# EAGLE library part TEXAS_INSTRUMENTS-MICROCONTROLLER-TMS320F28030PAGT (library Module_ICs)
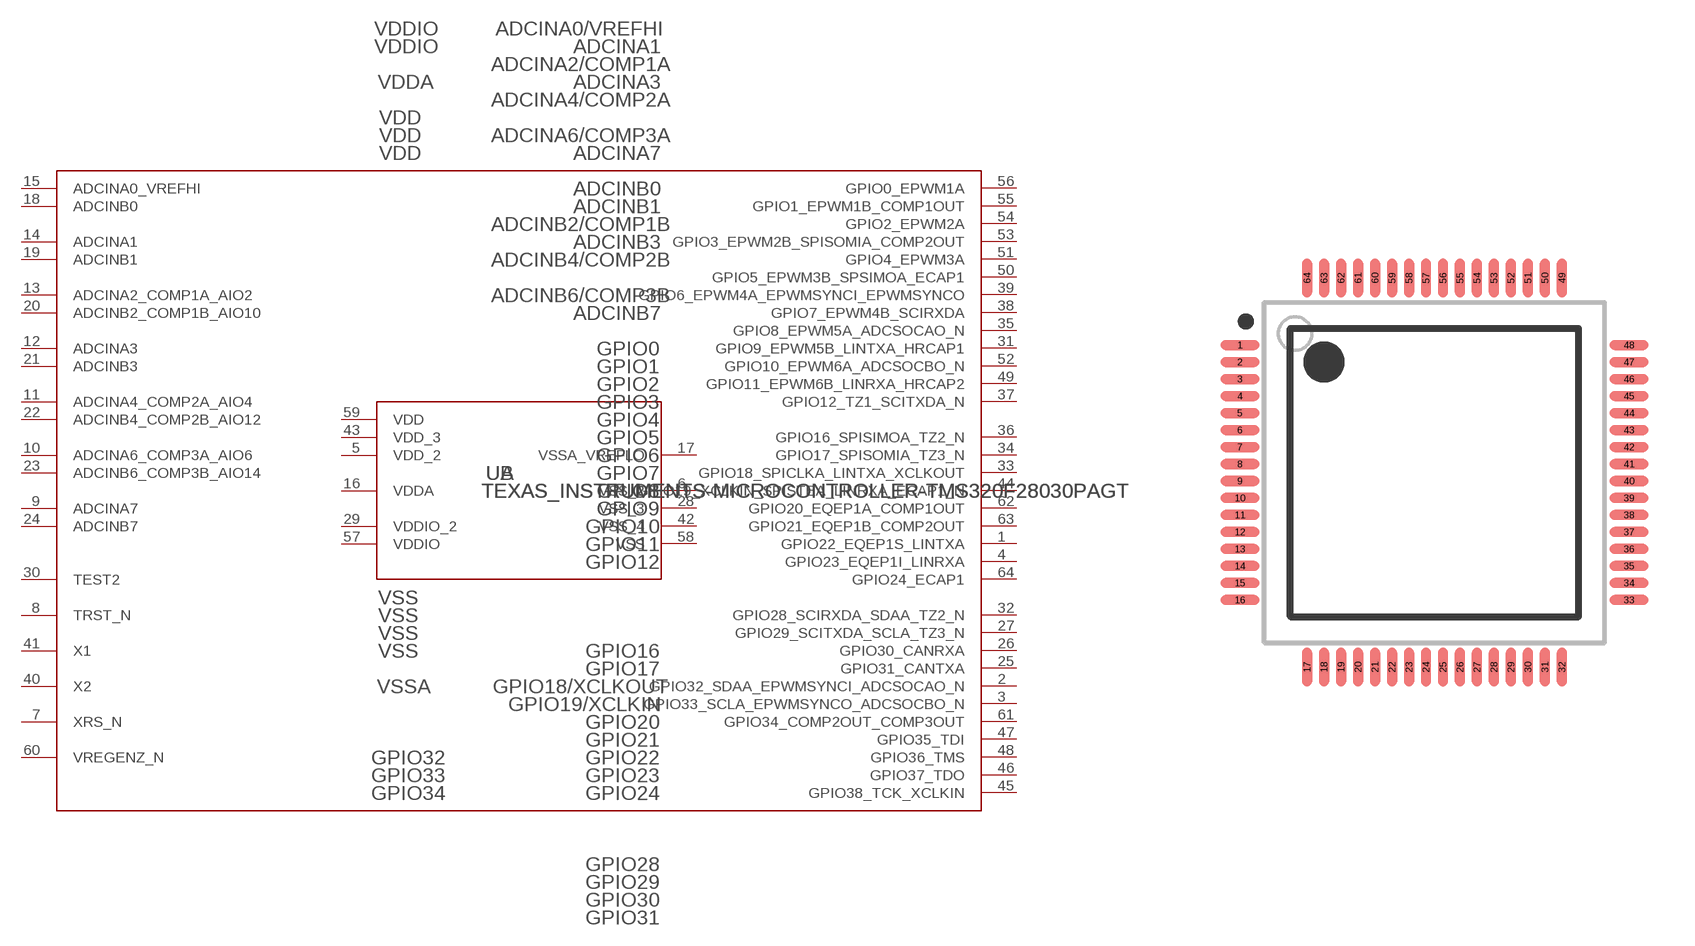
[diagram p15: symbol with the pads of TEXAS_INSTRUMENTS-MICROCONTROLLER-TMS320F28030PAGT; footprint TEXAS_INSTRUMENTS-MICROCONTROLLER-TMS320F28030PAGT]

Designator prefix U; gates A=TMS320F28030PAG_A B=TMS320F28030PAG_B

## TEXAS_INSTRUMENTS-MICROCONTROLLER-TMS320F28030PAGT (MANUFACTURER: Texas Instruments; PARTNUMBER: TMS320F28030PAGQ; REFDES: RefDes; TYPE: TYPE; VALUE: Value)  [TEXAS_INSTRUMENTS-MICROCONTROLLER-TMS320F28030PAGT]
1  A:GPIO22_EQEP1S_LINTXA
2  A:GPIO32_SDAA_EPWMSYNCI_ADCSOCAO_N
3  A:GPIO33_SCLA_EPWMSYNCO_ADCSOCBO_N
4  A:GPIO23_EQEP1I_LINRXA
5  B:VDD_2  pwr
6  B:VSS_2  pwr
7  A:XRS_N
8  A:TRST_N  in
9  A:ADCINA7
10  A:ADCINA6_COMP3A_AIO6
11  A:ADCINA4_COMP2A_AIO4
12  A:ADCINA3
13  A:ADCINA2_COMP1A_AIO2
14  A:ADCINA1
15  A:ADCINA0_VREFHI
16  B:VDDA  pwr
17  B:VSSA_VREFLO  pwr
18  A:ADCINB0
19  A:ADCINB1
20  A:ADCINB2_COMP1B_AIO10
21  A:ADCINB3
22  A:ADCINB4_COMP2B_AIO12
23  A:ADCINB6_COMP3B_AIO14
24  A:ADCINB7
25  A:GPIO31_CANTXA
26  A:GPIO30_CANRXA
27  A:GPIO29_SCITXDA_SCLA_TZ3_N
28  B:VSS_3  pwr
29  B:VDDIO_2  pwr
30  A:TEST2
31  A:GPIO9_EPWM5B_LINTXA_HRCAP1
32  A:GPIO28_SCIRXDA_SDAA_TZ2_N
33  A:GPIO18_SPICLKA_LINTXA_XCLKOUT
34  A:GPIO17_SPISOMIA_TZ3_N
35  A:GPIO8_EPWM5A_ADCSOCAO_N
36  A:GPIO16_SPISIMOA_TZ2_N
37  A:GPIO12_TZ1_SCITXDA_N
38  A:GPIO7_EPWM4B_SCIRXDA
39  A:GPIO6_EPWM4A_EPWMSYNCI_EPWMSYNCO
40  A:X2  out
41  A:X1  in
42  B:VSS_4  pwr
43  B:VDD_3  pwr
44  A:GPIO19_XCLKIN_SPISTEA_LINRXA_ECAP1_N
45  A:GPIO38_TCK_XCLKIN
46  A:GPIO37_TDO
47  A:GPIO35_TDI
48  A:GPIO36_TMS
49  A:GPIO11_EPWM6B_LINRXA_HRCAP2
50  A:GPIO5_EPWM3B_SPSIMOA_ECAP1
51  A:GPIO4_EPWM3A
52  A:GPIO10_EPWM6A_ADCSOCBO_N
53  A:GPIO3_EPWM2B_SPISOMIA_COMP2OUT
54  A:GPIO2_EPWM2A
55  A:GPIO1_EPWM1B_COMP1OUT
56  A:GPIO0_EPWM1A
57  B:VDDIO  pwr
58  B:VSS  pwr
59  B:VDD  pwr
60  A:VREGENZ_N  in
61  A:GPIO34_COMP2OUT_COMP3OUT
62  A:GPIO20_EQEP1A_COMP1OUT
63  A:GPIO21_EQEP1B_COMP2OUT
64  A:GPIO24_ECAP1

## Footprint TEXAS_INSTRUMENTS-MICROCONTROLLER-TMS320F28030PAGT (pad centres in mm)
smd 1.15 x 0.3: 1 -5.725,3.75; 2 -5.725,3.25; 3 -5.725,2.75; 4 -5.725,2.25; 5 -5.725,1.75; 6 -5.725,1.25; 7 -5.725,0.75; 8 -5.725,0.25; 9 -5.725,-0.25; 10 -5.725,-0.75; 11 -5.725,-1.25; 12 -5.725,-1.75; 13 -5.725,-2.25; 14 -5.725,-2.75; 15 -5.725,-3.25; 16 -5.725,-3.75; 33 5.725,-3.75; 34 5.725,-3.25; 35 5.725,-2.75; 36 5.725,-2.25; 37 5.725,-1.75; 38 5.725,-1.25; 39 5.725,-0.75; 40 5.725,-0.25; 41 5.725,0.25; 42 5.725,0.75; 43 5.725,1.25; 44 5.725,1.75; 45 5.725,2.25; 46 5.725,2.75; 47 5.725,3.25; 48 5.725,3.75
smd 0.3 x 1.15: 17 -3.75,-5.725; 18 -3.25,-5.725; 19 -2.75,-5.725; 20 -2.25,-5.725; 21 -1.75,-5.725; 22 -1.25,-5.725; 23 -0.75,-5.725; 24 -0.25,-5.725; 25 0.25,-5.725; 26 0.75,-5.725; 27 1.25,-5.725; 28 1.75,-5.725; 29 2.25,-5.725; 30 2.75,-5.725; 31 3.25,-5.725; 32 3.75,-5.725; 49 3.75,5.725; 50 3.25,5.725; 51 2.75,5.725; 52 2.25,5.725; 53 1.75,5.725; 54 1.25,5.725; 55 0.75,5.725; 56 0.25,5.725; 57 -0.25,5.725; 58 -0.75,5.725; 59 -1.25,5.725; 60 -1.75,5.725; 61 -2.25,5.725; 62 -2.75,5.725; 63 -3.25,5.725; 64 -3.75,5.725